# Altium schematic symbol library CAP1203-1-SN.SchLib: 1 symbol
Pins are listed as number, name and electrical type; pins without a type are passive.

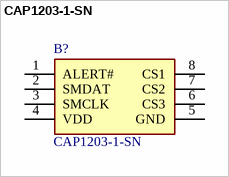
[diagram p0: symbol CAP1203-1-SN]

## CAP1203-1-SN
designator B?
CAP1203-1-SN Microchip Technology, CAP1203 Capacitive Touch Sensor Capacitive 8-Pin SOIC; Geometry.Height: 1.75mm; Mouser Part Number: 579-CAP1203-1-SN; Mouser Price/Stock: https://www.mouser.co.uk/ProductDetail/Microchip-Technology/CAP1203-1-SN?qs=ZEMkBHnybRFgBmrULrHmuQ%3D%3D; Manufacturer_Name: Microchip; Manufacturer_Part_Number: CAP1203-1-SN; Datasheet Link: http://www.microchip.com/mymicrochip/filehandler.aspx?ddocname=en566286
footprint SOIC127P600X175-8N
pins: 1 ALERT#, 2 SMDAT, 3 SMCLK, 4 VDD, 5 GND, 6 CS3, 7 CS2, 8 CS1